# Altium schematic symbol library WSLP2726.SchLib: 1 symbol
Pins are listed as number, name and electrical type; pins without a type are passive.

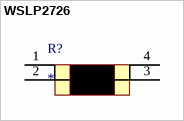
[diagram p0: symbol WSLP2726]

## WSLP2726
designator R?
pins: 1, 2, 3, 4